# EAGLE library part DS1307 (library aggiunte)
DS1307 calendario e orologio I2C
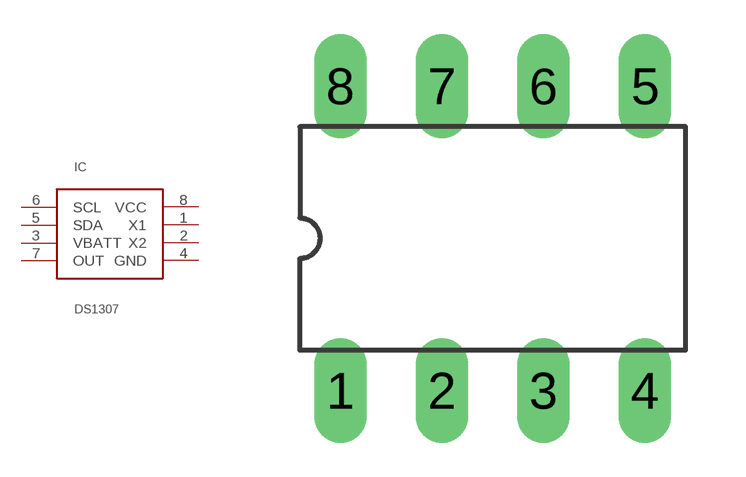
[diagram p0: symbol with the pads of DS1307; footprint DS1307]

Designator prefix IC

## DS1307  [DS1307]
1  X1  in
2  X2  in
3  VBATT  in
4  GND  sup
5  SDA
6  SCL  in
7  OUT  out
8  VCC  pwr

## Footprint DS1307 (pad centres in mm)
DS1307 calendario e orologio I2C
drill 0.8 long: 1 -8.89,-5.08; 2 -6.35,-5.08; 3 -3.81,-5.08; 4 -1.27,-5.08; 5 -1.27,2.54; 6 -3.81,2.54; 7 -6.35,2.54; 8 -8.89,2.54